# Altium schematic symbol library ESP32-WROVER-E.SchLib: 1 symbol
Pins are listed as number, name and electrical type; pins without a type are passive.

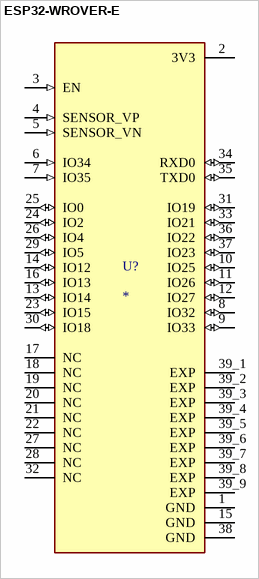
[diagram p0: symbol ESP32-WROVER-E]

## ESP32-WROVER-E
designator U?
ESP32-WROVER-E integrates ESP32-D0WD-V3, with higher stability and safety performance.; Manufacturer: ESPRESSIF; Flash: 4,8,16 MB; PSRAM: 8 MB; Antenna: On-board PCB; Pin: 38; ComponentLink1Description: Datasheet; ComponentLink1URL: https://www.espressif.com/sites/default/files/documentation/esp32-wrover-e_esp32-wrover-ie_datasheet_en.pdf
footprint ESP32-WROVER-E
pins: 1 GND (power), 2 3V3 (power), 3 EN (in), 4 SENSOR_VP (in), 5 SENSOR_VN (in), 6 IO34 (in), 7 IO35 (in), 8 IO32 (io), 9 IO33 (io), 10 IO25 (io), 11 IO26 (io), 12 IO27 (io), 13 IO14 (io), 14 IO12 (io), 15 GND (power), 16 IO13 (io), 17 NC, 18 NC, 19 NC, 20 NC, 21 NC, 22 NC, 23 IO15 (io), 24 IO2 (io), 25 IO0 (io), 26 IO4 (io), 27 NC, 28 NC, 29 IO5 (io), 30 IO18 (io), 31 IO19 (io), 32 NC, 33 IO21 (io), 34 RXD0 (io), 35 TXD0 (io), 36 IO22 (io), 37 IO23 (io), 38 GND (power), 39_1 EXP (power), 39_2 EXP (power), 39_3 EXP (power), 39_4 EXP (power), 39_5 EXP (power), 39_6 EXP (power), 39_7 EXP (power), 39_8 EXP (power), 39_9 EXP (power)